# Altium schematic symbol library IPD650P06NMATMA1.SchLib: 1 symbol
Pins are listed as number, name and electrical type; pins without a type are passive.

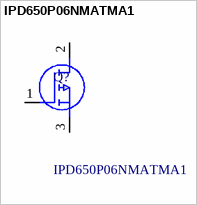
[diagram p0: symbol IPD650P06NMATMA1]

## IPD650P06NMATMA1
designator Q?
MOSFET TRENCH 40<-<100V; Manufacturer_Name: Infineon; Geometry.Height: 2mm; Mouser Part Number: 726-IPD650P06NMATMA1; Mouser Price/Stock: https://www.mouser.co.uk/ProductDetail/Infineon-Technologies/IPD650P06NMATMA1?qs=unwgFEO1A6vz3T2Vr47kIg%3D%3D; Manufacturer_Part_Number: IPD650P06NMATMA1; Datasheet Link: https://www.infineon.com/dgdl/Infineon-IPD650P06NM-DS-v02_00-EN.pdf?fileId=5546d46269e1c019016a03e2db2100b1
footprint BTS3035TFATMA1
pins: 1 G, 2 D, 3 S